# EAGLE library part DRV8833PWP (library DRV8833PW)
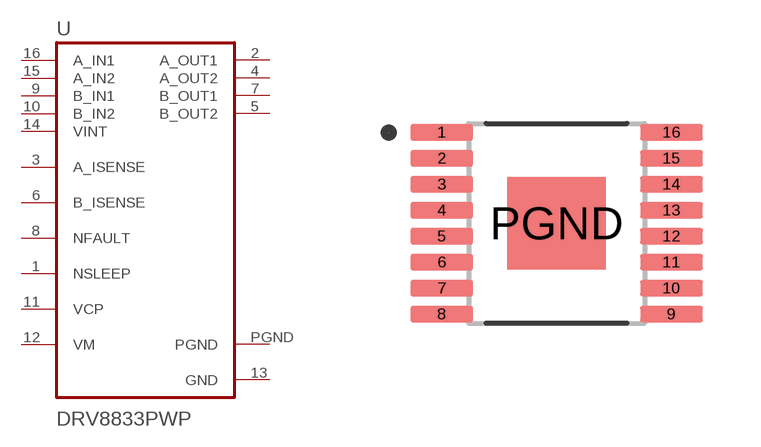
[diagram p1: symbol with the pads of SOP65P640X120P-16N; footprint SOP65P640X120P-16N]

Designator prefix -

## DRV8833PWP  [SOP65P640X120P-16N]
1  NSLEEP
2  A_OUT1  out
3  A_ISENSE
4  A_OUT2  out
5  B_OUT2  out
6  B_ISENSE
7  B_OUT1  out
8  NFAULT
9  B_IN1  in
10  B_IN2  in
11  VCP
12  VM
13  GND  pwr
14  VINT  in
15  A_IN2  in
16  A_IN1  in
PGND  PGND  pwr

## Footprint SOP65P640X120P-16N (pad centres in mm)
smd 1.57 x 0.41: 1 -2.87,2.275; 2 -2.87,1.625; 3 -2.87,0.975; 4 -2.87,0.325; 5 -2.87,-0.325; 6 -2.87,-0.975; 7 -2.87,-1.625; 8 -2.87,-2.275; 9 2.87,-2.275; 10 2.87,-1.625; 11 2.87,-0.975; 12 2.87,-0.325; 13 2.87,0.325; 14 2.87,0.975; 15 2.87,1.625; 16 2.87,2.275
smd 2.46 x 2.31: PGND 0,0